# EAGLE library part TEA6420 (library cinch)
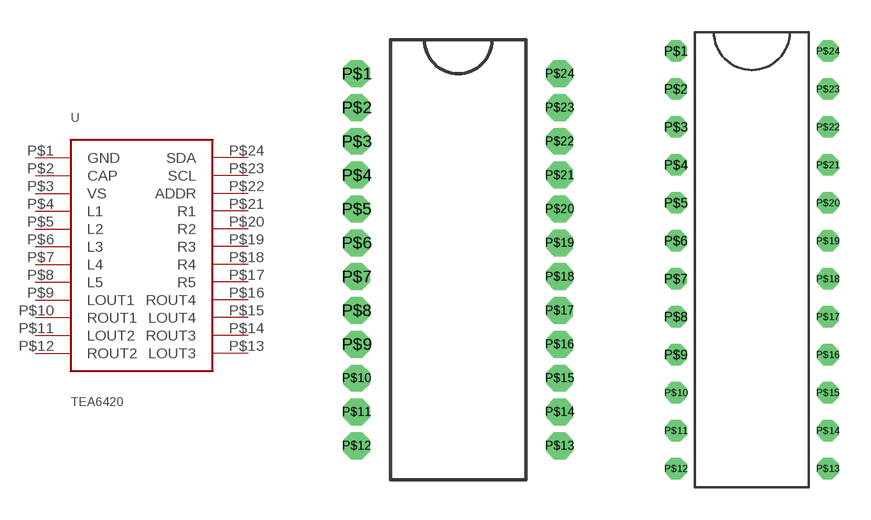
[diagram p1: symbol with the pads of TEA4620; footprints TEA4620, SHRINK24]

Designator prefix -

## TEA6420DEFEKT  [TEA4620]
P$1  GND
P$2  CAP
P$3  VS
P$4  L1
P$5  L2
P$6  L3
P$7  L4
P$8  L5
P$9  LOUT1
P$10  ROUT1
P$11  LOUT2
P$12  ROUT2
P$13  LOUT3
P$14  ROUT3
P$15  LOUT4
P$16  ROUT4
P$17  R5
P$18  R4
P$19  R3
P$20  R2
P$21  R1
P$22  ADDR
P$23  SCL
P$24  SDA

## TEA6420  [SHRINK24]
Pads as for TEA4620

## Footprint TEA4620 (pad centres in mm)
drill 0.5 octagon: P$1 -3.81,6.35; P$2 -3.81,5.08; P$3 -3.81,3.81; P$4 -3.81,2.54; P$5 -3.81,1.27; P$6 -3.81,0; P$7 -3.81,-1.27; P$8 -3.81,-2.54; P$9 -3.81,-3.81; P$10 -3.81,-5.08; P$11 -3.81,-6.35; P$12 -3.81,-7.62; P$13 3.81,-7.62; P$14 3.81,-6.35; P$15 3.81,-5.08; P$16 3.81,-3.81; P$17 3.81,-2.54; P$18 3.81,-1.27; P$19 3.81,0; P$20 3.81,1.27; P$21 3.81,2.54; P$22 3.81,3.81; P$23 3.81,5.08; P$24 3.81,6.35

## Footprint SHRINK24 (pad centres in mm)
drill 0.5 octagon: P$1 -3.556,10.668; P$2 -3.556,8.89; P$3 -3.556,7.112; P$4 -3.556,5.334; P$5 -3.556,3.556; P$6 -3.556,1.778; P$7 -3.556,0; P$8 -3.556,-1.778; P$9 -3.556,-3.556; P$10 -3.556,-5.334; P$11 -3.556,-7.112; P$12 -3.556,-8.89; P$13 3.556,-8.89; P$14 3.556,-7.112; P$15 3.556,-5.334; P$16 3.556,-3.556; P$17 3.556,-1.778; P$18 3.556,0; P$19 3.556,1.778; P$20 3.556,3.556; P$21 3.556,5.334; P$22 3.556,7.112; P$23 3.556,8.89; P$24 3.556,10.668